# EAGLE library part MCP7940N (library template)
The MCP7940N series of low-power Real-Time Clocks (RTC) uses digital timing compensation for an accurate clock/calendar, a programmable output control for versatility, a power sense circuit that automatically switches to the backup supply. Using a low-cost 32.768 kHz crystal, it tracks time using several internal registers. For communication, the MCP7940N uses the I 2 C™ bus. The clock/calendar automatically adjusts for months with fewer than 31 days, including corrections for leap years. The clock operates in either the 24-hour or 12-hour format with an AM/PM indicator and settable alarm(s) to the second, minute, hour, day of the week, date or month. Using the programmable CLKOUT, frequencies of 32.768, 8.192 and 4.096 kHz and 1 Hz can be generated from the external crystal. The device is fully accessible through the serial interface while VCC is between 1.8V and 5.5V, but can operate down to 1.3V for timekeeping and SRAM retention only. The RTC series of devices are available in the standard 8-lead SOIC, TSSOP, MSOP and 2x3 TDFN packages
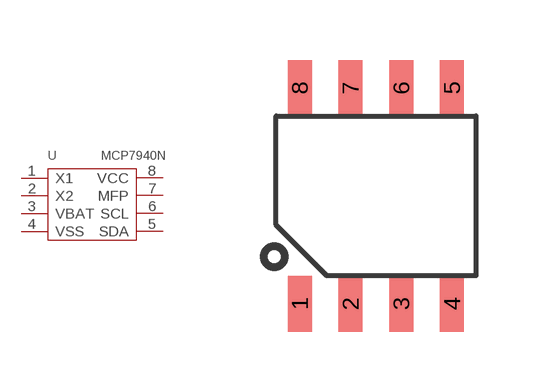
[diagram p38: symbol with the pads of SOIC8; footprint SOIC8]

Designator prefix U

## MCP7940N'MCP7940N'  [SOIC8]
1  X1
2  X2
3  VBAT
4  VSS
5  SDA
6  SCL
7  MFP
8  VCC

## Footprint SOIC8 (pad centres in mm)
smd 0.6 x 1.4: 1 -1.905,-2.7; 2 -0.635,-2.7; 3 0.635,-2.7; 4 1.905,-2.7; 5 1.905,2.7; 6 0.635,2.7; 7 -0.635,2.7; 8 -1.905,2.7